# Altium footprint library LINUX.PcbLib: 113 footprints (part 5 of 8)
Each footprint in its own frame and in the unit in brackets; x right, y up, seen from the top. Pads: shape width x height; smd on the part's side, far side on the other; paste and mask are expansions set on the pad; w line width, h text height; cw(c..) or ccw(c..) is an arc to the next point about the centre after c.
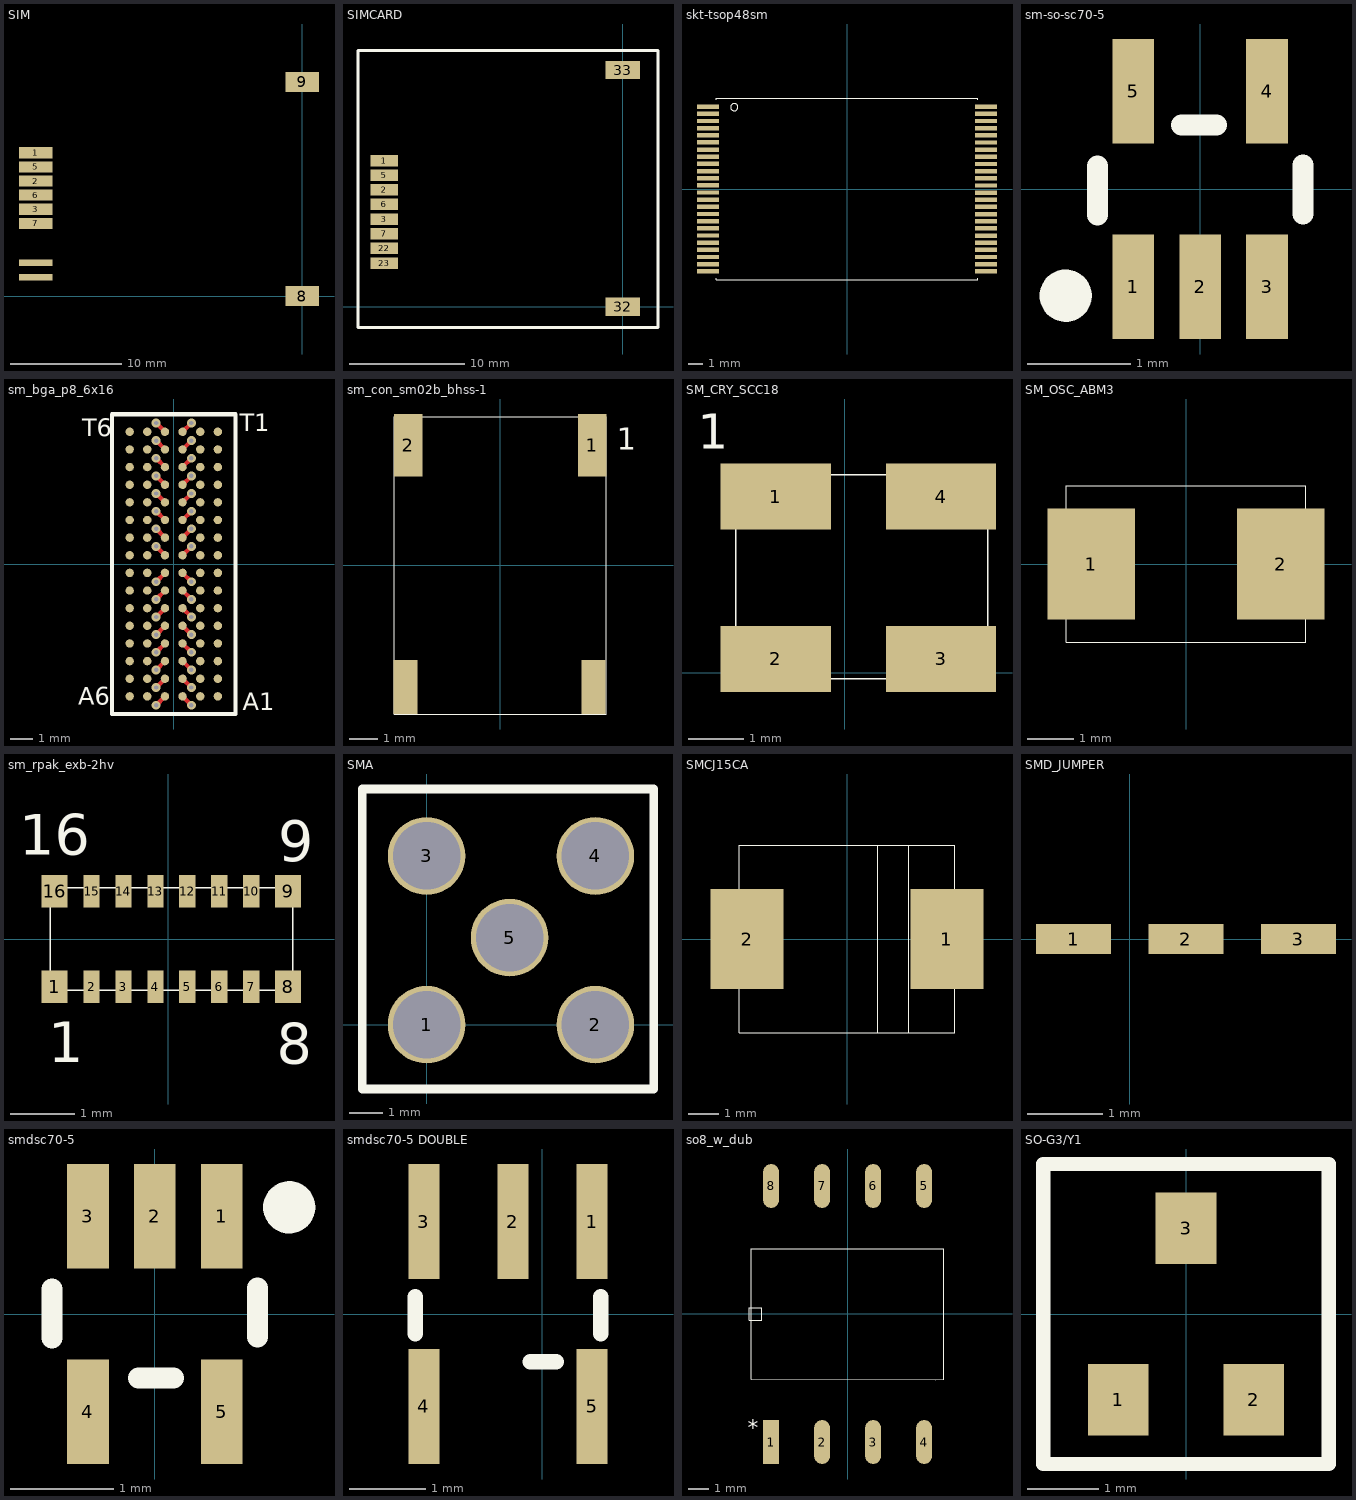
[diagram p4: the footprints below, top view; thin cyan lines are the x and y axes]

## SIM [mm]
pads (10):
  rect 3x1 smd mask+0.06: 1(-24,12.9) 2(-24,10.36) 3(-24,7.82) 5(-24,11.63) 6(-24,9.09) 7(-24,6.55)
  rect 3x1.8 smd mask+0.06: 8(0,0) 9(0,19.28)
  rect 3x0.6 smd mask+0.06: SW1(-24,3.01) SW2(-24,1.71)

## SIMCARD [mm]
pads (10):
  rect 2.4x1 smd mask+0.2: 1(-20.7,12.69) 2(-20.7,10.15) 3(-20.7,7.61) 5(-20.7,11.42) 6(-20.7,8.88) 7(-20.7,6.34) 22(-20.7,5.07) 23(-20.7,3.8)
  rect 3x1.6 smd mask+0.2: 32(0,0) 33(0,20.55)
Top Overlay:
  lines w0.254: -22.987,-1.778 3.048,-1.778 3.048,22.225 -22.987,22.225 -22.987,-1.778

## skt-tsop48sm [mil] "SKT-TSOP48SM"
pads (48):
  rect 60x12 smd mask+5.91: 1(-382.5,226.5) 2(-382.5,206.8) 3(-382.5,187.1) 4(-382.5,167.4) 5(-382.5,147.8) 6(-382.5,128.1) 7(-382.5,108.4) 8(-382.5,88.7) 9(-382.5,69) 10(-382.5,49.3) 11(-382.5,29.7) 12(-382.5,10) 13(-382.5,-9.7) 14(-382.5,-29.4) 15(-382.5,-49.1) 16(-382.5,-68.8) 17(-382.5,-88.5) 18(-382.5,-108.1) 19(-382.5,-127.8) 20(-382.5,-147.5) 21(-382.5,-167.2) 22(-382.5,-186.9) 23(-382.5,-206.6) 24(-382.5,-226.3) 25(382.5,-226.5) 26(382.5,-206.8) 27(382.5,-187.1) 28(382.5,-167.4) 29(382.5,-147.8) 30(382.5,-128.1) 31(382.5,-108.4) 32(382.5,-88.7) 33(382.5,-69) 34(382.5,-49.3) 35(382.5,-29.7) 36(382.5,-10) 37(382.5,9.7) 38(382.5,29.4) 39(382.5,49.1) 40(382.5,68.8) 41(382.5,88.5) 42(382.5,108.1) 43(382.5,127.8) 44(382.5,147.5) 45(382.5,167.2) 46(382.5,186.9) 47(382.5,206.6) 48(382.5,226.3)
Top Overlay:
  circle w1: c-310,225 r10
  lines w1: -360,-245 -360,-250 360,-250 360,-245 ; -360,245 -360,250 360,250 360,245

## sm-so-sc70-5 [mil] "SM-SO-SC70-5"
pads (5):
  rect 16x40 smd mask+2.36: 1(-25.59,-37.4) 2(0,-37.4) 3(25.59,-37.4) 4(25.59,37.4) 5(-25.59,37.4)
Top Overlay:
  circle w10: c-51.45,-40.82 r5
  lines w8: -39.34,-10.02 -39.34,8.81 ; -7.17,24.52 6.18,24.52 ; 39.4,-9.61 39.4,9.22

## sm_bga_p8_6x16 [mm] "SM_BGA_P8_6X16"
pads (96):
  round 0.381 smd mask+0.06: A1(2,-6) A2(1.2,-6) A3(0.4,-6) A4(-0.4,-6) A5(-1.2,-6) A6(-2,-6) B1(2,-5.2) B2(1.2,-5.2) B3(0.4,-5.2) B4(-0.4,-5.2) B5(-1.2,-5.2) B6(-2,-5.2) C1(2,-4.4) C2(1.2,-4.4) C3(0.4,-4.4) C4(-0.4,-4.4) C5(-1.2,-4.4) C6(-2,-4.4) D1(2,-3.6) D2(1.2,-3.6) D3(0.4,-3.6) D4(-0.4,-3.6) D5(-1.2,-3.6) D6(-2,-3.6) E1(2,-2.8) E2(1.2,-2.8) E3(0.4,-2.8) E4(-0.4,-2.8) E5(-1.2,-2.8) E6(-2,-2.8) F1(2,-2) F2(1.2,-2) F3(0.4,-2) F4(-0.4,-2) F5(-1.2,-2) F6(-2,-2) G1(2,-1.2) G2(1.2,-1.2) G3(0.4,-1.2) G4(-0.4,-1.2) G5(-1.2,-1.2) G6(-2,-1.2) H1(2,-0.4) H2(1.2,-0.4) H3(0.4,-0.4) H4(-0.4,-0.4) H5(-1.2,-0.4) H6(-2,-0.4) J1(2,0.4) J2(1.2,0.4) J3(0.4,0.4) J4(-0.4,0.4) J5(-1.2,0.4) J6(-2,0.4) K1(2,1.2) K2(1.2,1.2) K3(0.4,1.2) K4(-0.4,1.2) K5(-1.2,1.2) K6(-2,1.2) L1(2,2) L2(1.2,2) L3(0.4,2) L4(-0.4,2) L5(-1.2,2) L6(-2,2) M1(2,2.8) M2(1.2,2.8) M3(0.4,2.8) M4(-0.4,2.8) M5(-1.2,2.8) M6(-2,2.8) N1(2,3.6) N2(1.2,3.6) N3(0.4,3.6) N4(-0.4,3.6) N5(-1.2,3.6) N6(-2,3.6) P1(2,4.4) P2(1.2,4.4) P3(0.4,4.4) P4(-0.4,4.4) P5(-1.2,4.4) P6(-2,4.4) R1(2,5.2) R2(1.2,5.2) R3(0.4,5.2) R4(-0.4,5.2) R5(-1.2,5.2) R6(-2,5.2) T1(2,6) T2(1.2,6) T3(0.4,6) T4(-0.4,6) T5(-1.2,6) T6(-2,6)
via 0.8,-4.8 diameter 0.4 hole 0.2
via 0.8,-2.4 diameter 0.4 hole 0.2
via 0.8,2.4 diameter 0.4 hole 0.2
via 0.8,4.8 diameter 0.4 hole 0.2
via -0.8,-4.8 diameter 0.4 hole 0.2
via -0.8,-2.4 diameter 0.4 hole 0.2
via -0.8,2.4 diameter 0.4 hole 0.2
via -0.8,4.8 diameter 0.4 hole 0.2
via -0.8,-6.4 diameter 0.4 hole 0.2
via -0.8,-0.8 diameter 0.4 hole 0.2
via -0.8,0.8 diameter 0.4 hole 0.2
via -0.8,6.4 diameter 0.4 hole 0.2
via -0.8,-5.6 diameter 0.4 hole 0.2
via -0.8,-4 diameter 0.4 hole 0.2
via -0.8,-3.2 diameter 0.4 hole 0.2
via -0.8,-1.6 diameter 0.4 hole 0.2
via -0.8,1.6 diameter 0.4 hole 0.2
via -0.8,3.2 diameter 0.4 hole 0.2
via -0.8,5.6 diameter 0.4 hole 0.2
via -0.8,4 diameter 0.4 hole 0.2
via 0.8,-6.4 diameter 0.4 hole 0.2
via 0.8,-5.6 diameter 0.4 hole 0.2
via 0.8,-4 diameter 0.4 hole 0.2
via 0.8,-3.2 diameter 0.4 hole 0.2
via 0.8,-1.6 diameter 0.4 hole 0.2
via 0.8,-0.8 diameter 0.4 hole 0.2
via 0.8,0.8 diameter 0.4 hole 0.2
via 0.8,1.6 diameter 0.4 hole 0.2
via 0.8,3.2 diameter 0.4 hole 0.2
via 0.8,6.4 diameter 0.4 hole 0.2
via 0.8,4 diameter 0.4 hole 0.2
via 0.8,5.6 diameter 0.4 hole 0.2
Top Layer:
  lines w0.2: -0.8,-6.4 -0.4,-6 ; -0.8,-5.6 -0.4,-5.2 ; -0.8,-4.8 -0.4,-4.4 ; -0.8,-4 -0.4,-3.6 ; -0.8,-3.2 -0.4,-2.8 ; -0.8,-2.4 -0.4,-2 ; -0.8,-1.6 -0.4,-1.2 ; -0.8,-0.8 -0.4,-0.4 ; -0.8,0.8 -0.4,0.4 ; -0.8,1.6 -0.4,1.2 ; -0.8,2.4 -0.4,2 ; -0.8,3.2 -0.4,2.8 ; -0.8,4 -0.4,3.6 ; -0.8,4.8 -0.4,4.4 ; -0.8,5.6 -0.4,5.2 ; -0.8,6.4 -0.4,6 ; 0.4,-6 0.8,-6.4 ; 0.4,-5.2 0.8,-5.6 ; 0.4,-4.4 0.8,-4.8 ; 0.4,-3.6 0.8,-4 ; 0.4,-2.8 0.8,-3.2 ; 0.4,-2 0.8,-2.4 ; 0.4,-1.2 0.8,-1.6 ; 0.4,-0.4 0.8,-0.8 ; 0.4,0.4 0.8,0.8 ; 0.4,1.2 0.8,1.6 ; 0.4,2 0.8,2.4 ; 0.4,2.8 0.8,3.2 ; 0.4,3.6 0.8,4 ; 0.4,4.4 0.8,4.8 ; 0.4,5.2 0.8,5.6 ; 0.4,6 0.8,6.4
Top Overlay:
  lines w0.2: -2.8,-6.8 -2.8,6.8 2.8,6.8 2.8,-6.8 -2.8,-6.8
  text "A6" at -4.343,-6.375 h0.79
  text "A1" at 3.124,-6.629 h0.79
  text "T1" at 2.997,6.02 h0.79
  text "T6" at -4.14,5.791 h0.79

## sm_con_sm02b_bhss-1 [mm] "SM_CON_SM02B_BHSS-1"
pads (4):
  rect 1x2.2 smd: 1(3.25,4.25) 2(-3.25,4.25)
  rect 0.85x1.9 smd: " "(-3.35,-4.3) " "(3.3,-4.3)
Top Overlay:
  lines w0.025: -3.75,-5.25 3.75,-5.25 3.75,5.25 -3.75,5.25 -3.75,-5.25
  text "1" at 4.115,4.089 h0.79

## SM_CRY_SCC18 [mm] "SM_CRY_SCC18"
pads (4):
  rect 2x1.2 smd: 1(-1.25,3.2) 2(-1.25,0.254) 3(1.75,0.254) 4(1.75,3.2)
Top Overlay:
  lines w0.025: -1.981,-0.102 -1.981,3.6 2.6,3.6 2.6,-0.102 -1.981,-0.102
  text "1" at -2.667,4.064 h0.64

## SM_OSC_ABM3 [mm] "SM_OSC_ABM3"
pads (2):
  rect 1.9x2.4 smd: 1(-2.05,0) 2(2.05,0)
Top Overlay:
  lines w0.025: -2.6,-1.7 2.6,-1.7 2.6,1.7 -2.6,1.7 -2.6,-1.7

## sm_rpak_exb-2hv [mil] "SM_RPAK_EXB-2HV"
pads (16):
  rect 16x20 smd mask+2.36: 1(-70.08,-29.53) 8(74.02,-29.53) 9(74.02,29.53) 16(-70.08,29.53)
  rect 10x20 smd mask+2.36: 2(-47.24,-29.53) 3(-27.56,-29.53) 4(-7.87,-29.53) 5(11.81,-29.53) 6(31.5,-29.53) 7(51.18,-29.53) 10(51.18,29.53) 11(31.5,29.53) 12(11.81,29.53) 13(-7.87,29.53) 14(-27.56,29.53) 15(-47.24,29.53)
Top Overlay:
  lines w1: -72.83,-31.5 76.77,-31.5 76.77,31.5 -72.83,31.5 -72.83,-31.5
  text "16" at -92,52 h25
  text "9" at 68,48 h25
  text "8" at 67,-77 h25
  text "1" at -74,-76 h25

## SMA [mm]
pads (5):
  round 2.3 hole 2: 1(0,0) 2(5,0) 3(0,5) 4(5,5) 5(2.46,2.58)
Top Overlay:
  lines w0.254: -1.905,-1.905 6.731,-1.905 6.731,6.985 -1.905,6.985 -1.905,-1.905

## SMCJ15CA [mm] "SMCJ15CA"
pads (2):
  rect 2.4x3.3 smd: 1(3.3,0) 2(-3.3,0)
Top Overlay:
  lines w0.025: -3.55,-3.1 3.55,-3.1 3.55,3.1 -3.55,3.1 -3.55,-3.1 ; 1.016,-3.1 2.032,-3.1 2.032,3.1 1.016,3.1 1.016,-3.1

## SMD_JUMPER [mm]
pads (3):
  rect 1x0.4 smd: 1(-0.75,0) 2(0.75,0) 3(2.25,0)

## smdsc70-5 [mil] "SMDSC70-5"
pads (5):
  rect 16x40 smd mask+2.36: 1(25.59,37.4) 2(0,37.4) 3(-25.59,37.4) 4(-25.59,-37.4) 5(25.59,-37.4)
Top Overlay:
  circle w10: c51.45,40.82 r5
  lines w8: -39.4,-9.22 -39.4,9.61 ; -6.18,-24.52 7.17,-24.52 ; 39.34,-8.81 39.34,10.02

## smdsc70-5 DOUBLE [mm] "SMDSC70-5"
pads (5):
  rect 0.406x1.5 smd mask+0.06: 1(0.65,1.204) 2(-0.381,1.204) 3(-1.539,1.204) 4(-1.539,-1.204) 5(0.65,-1.204)
Top Overlay:
  lines w0.203: -1.651,-0.254 -1.651,0.224 ; -0.157,-0.623 0.182,-0.623 ; 0.762,-0.254 0.762,0.224

## so8_w_dub [mm] "SO8_W_DUB"
pads (8):
  rect 0.8x2.184 smd: 1(-3.81,-6.38)
  oval 0.8x2.184 smd: 2(-1.27,-6.38) 3(1.27,-6.38) 4(3.81,-6.38) 5(3.81,6.367) 6(1.27,6.367) 7(-1.27,6.367) 8(-3.81,6.367)
Top Overlay:
  lines w0.025: -4.889,-0.311 -4.28,-0.311 -4.28,0.298 -4.889,0.298 -4.889,-0.311 ; -4.788,-3.258 4.39,-3.269 4.788,-3.258 4.788,3.245 -4.788,3.245 -4.788,-3.258
  text "*" at -4.963,-6.036 h0.79

## SO-G3/Y1 [mm]
pads (3):
  rect 0.85x1 smd: 1(-0.95,-1.2) 2(0.95,-1.2) 3(0,1.2)
Top Overlay:
  lines w0.2: -2,-2.1 -2,2.1 2,2.1 2,-2.1 -2,-2.1